# Altium integrated library Cypress PSoC 1.IntLib: 188 symbols (part 2 of 11)
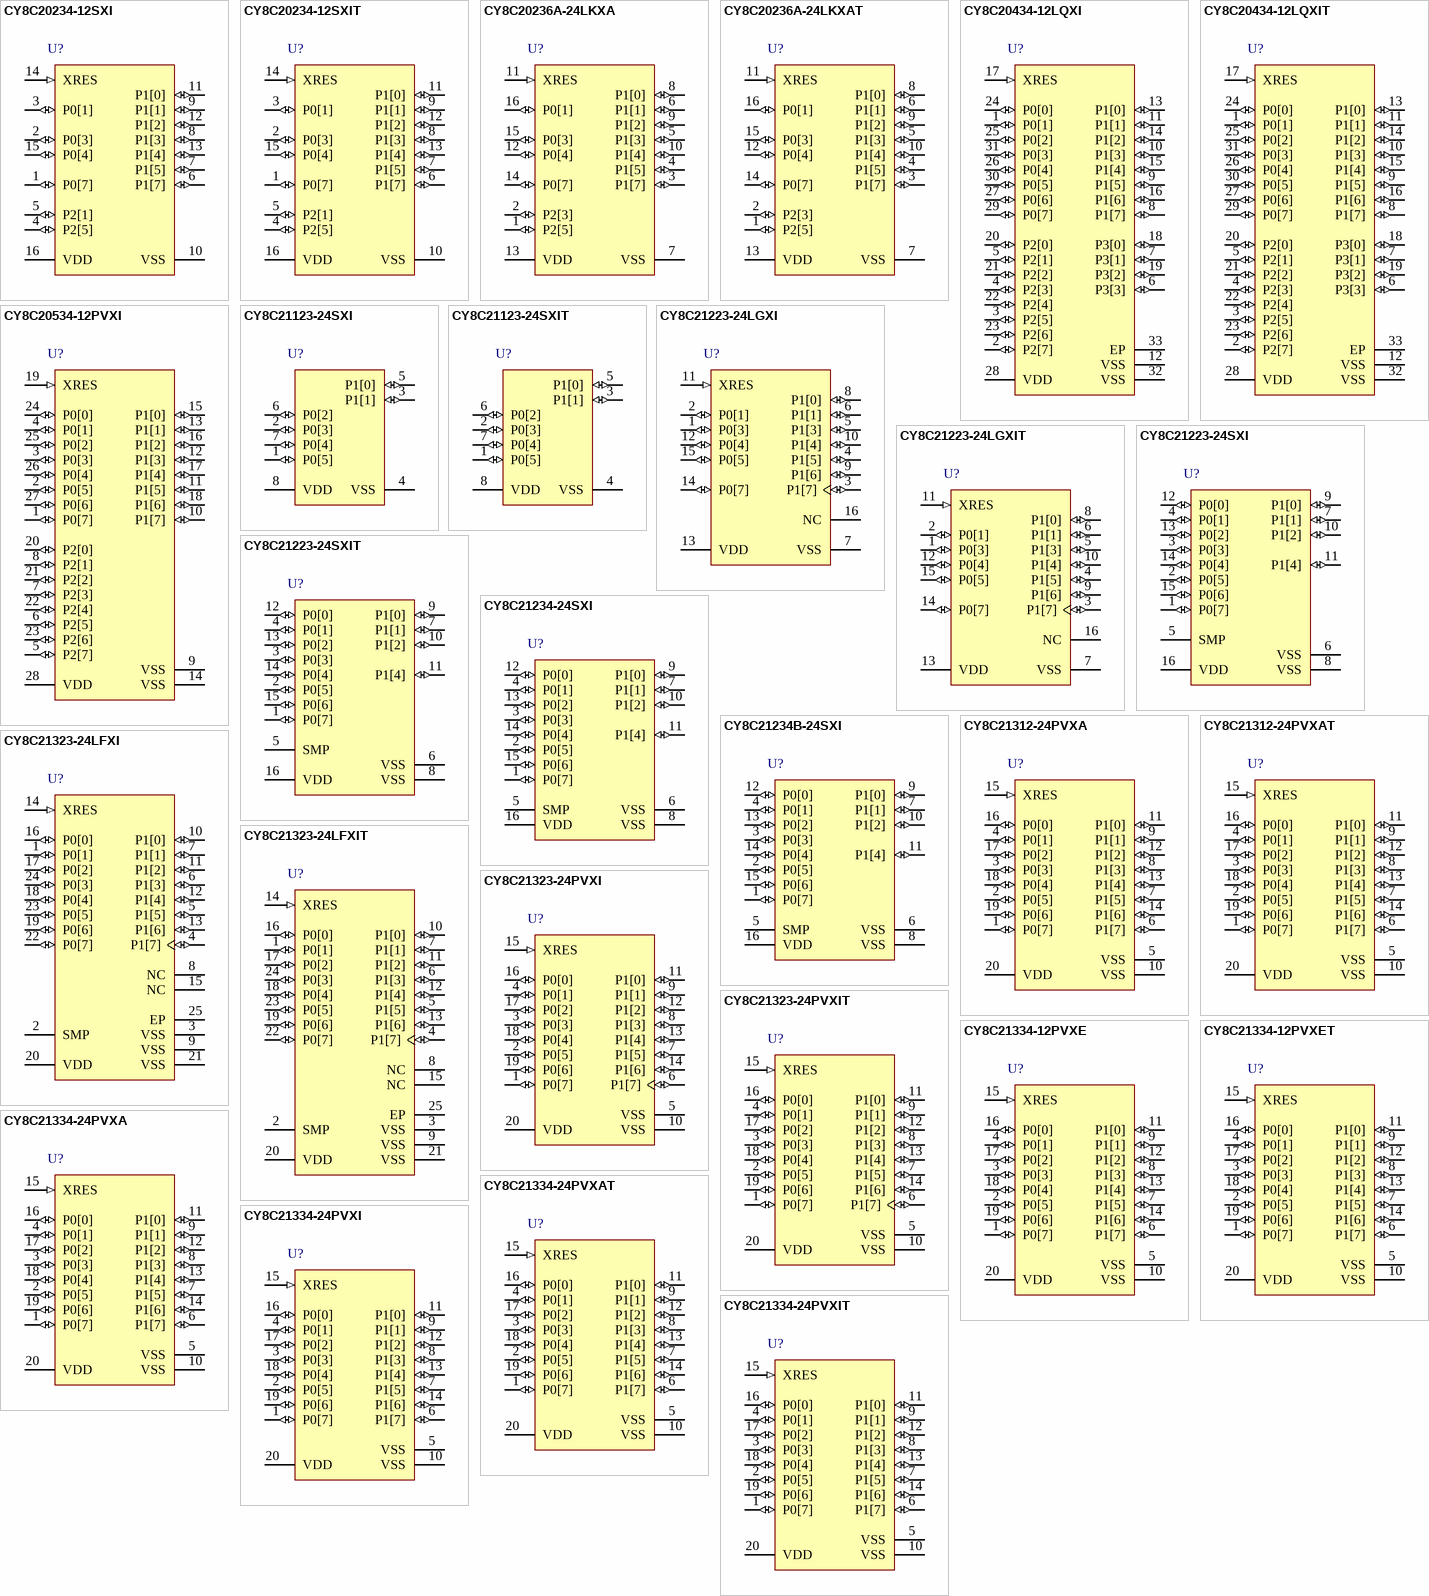
[diagram p12: symbols CY8C20234-12SXI to CY8C21334-24PVXIT]

## CY8C20534-12PVXI
designator U?
PSoC Programmable System-on-Chip, M8C, 21 CapSense IO, 2.40 to 5.25 V, 28-Pin SSOP (PVX28); Manufacturer: Cypress; PartNumber: CY8C20534-12PVXI; Comm. Interface: I2C-SPI; No. of CapSense IO: 21; Flash (KB): 8; Max. Operating Voltage (V): 5.25; Min. Operating Voltage (V): 2.4; No. of GPIOs: 24; Packing: Tube; Proximity Sensing: N; PWMs: SW; Sliders: 4; SRAM (KB): 0.5; DatasheetVersion: Rev. *Q; PackageVersion: *C; PackageReference: PVX28; PackageDescription: 28-Pin SSOP, Body 10.2 x 5.3 mm, Pitch 0.65 mm; Supplier 1: Digi-Key; Supplier Part Number 1: CY8C20534-12PVXI-ND; Supplier 2: Mouser; Supplier Part Number 2: 727-CY8C20534-12PVXI; CPU Core: M8C; Max. Operating Temp. (°C): 85; Min. Operating Temp. (°C): -40; SmartSense Enabled: N; Mounting Technology: Surface Mount; ComponentLink1Description: Manufacturer URL; ComponentLink1URL: http://www.cypress.com/; ComponentLink2Description: Datasheet; ComponentLink2URL: http://www.cypress.com/?docID=38076; ComponentLink3Description: Package Specification; ComponentLink3URL: http://www.cypress.com/?docID=1371; ComponentLink4Description: Product URL; ComponentLink4URL: http://www.cypress.com/?rID=3372
footprint CYP-PVX28_N (SOP, 28-Leads, Body 10.2x5.3mm, Pitch 0.65mm, IPC Medium Density)
footprint CYP-PVX28_L (SOP, 28-Leads, Body 10.2x5.3mm, Pitch 0.65mm, IPC High Density)
footprint CYP-PVX28_M (SOP, 28-Leads, Body 10.2x5.3mm, Pitch 0.65mm, IPC Low Density)
pins: 1 P0[7] (io) "Analog column mux input", 2 P0[5] (io) "Analog column mux input and column output", 3 P0[3] (io) "Analog column mux input and column output, integrating input", 4 P0[1] (io) "Analog column mux input, integrating input", 5 P2[7] (io), 6 P2[5] (io), 7 P2[3] (io) "Direct switched capacitor block input", 8 P2[1] (io) "Direct switched capacitor block input", 9 VSS (power) "Ground connection", 10 P1[7] (io) "I2C serial clock (SCL)", 11 P1[5] (io) "I2C serial data (SDA)", 12 P1[3] (io), 13 P1[1] (io) "I2C serial clock (SCL), ISSP-SCLK", 14 VSS (power) "Ground connection", 15 P1[0] (io) "I2C serial data (SDA), ISSP-SDATA", 16 P1[2] (io), 17 P1[4] (io) "Optional external clock input (EXTCLK)", 18 P1[6] (io), 19 XRES (in) "Active high external reset with internal pull-down", 20 P2[0] (io) "Direct switched capacitor block input", 21 P2[2] (io) "Direct switched capacitor block input", 22 P2[4] (io), 23 P2[6] (io), 24 P0[0] (io) "Analog column mux input", 25 P0[2] (io) "Analog column mux input", 26 P0[4] (io) "Analog column mux input", 27 P0[6] (io) "Analog column mux input", 28 VDD (power) "Supply voltage"

## CY8C21123-24SXI
designator U?
PSoC Programmable System-on-Chip, 4 KB Flash, 6 GPIOs, 2.40 to 5.25 V, 8-Pin SOIC (S08.15); Manufacturer: Cypress; PartNumber: CY8C21123-24SXI; Flash (KB): 4; Max. Operating Voltage (V): 5.25; Min. Operating Voltage (V): 2.40; DatasheetVersion: Rev. *X; PackageVersion: *D; PackageReference: S08.15; PackageDescription: 8-Pin SOIC, Body 4.9 x 3.9 mm, Pitch 1.27 mm; Supplier 1: Digi-Key; Supplier Part Number 1: 428-1682-ND; Supplier 2: Farnell; Supplier Part Number 2: 1267169; Supplier 3: Newark; Supplier Part Number 3: 19M7156; Supplier 4: Mouser; Supplier Part Number 4: 727-CY8C21123-24SXI; No. of Programmable Digital Blocks: 4; Mounting Technology: Surface Mount; Code_JEDEC: MS-012; ComponentLink1Description: Manufacturer URL; ComponentLink1URL: http://www.cypress.com/; ComponentLink2Description: Datasheet; ComponentLink2URL: http://www.cypress.com/?docID=45147; ComponentLink3Description: Package Specification; ComponentLink3URL: http://www.cypress.com/?docID=20445; ComponentLink4Description: Product URL; ComponentLink4URL: http://www.cypress.com/?rID=3335
footprint CYP-S08.15_N (SOIC, 8-Leads, Body 4.9x3.9mm, Pitch 1.27mm, IPC Medium Density)
footprint CYP-S08.15_L (SOIC, 8-Leads, Body 4.9x3.9mm, Pitch 1.27mm, IPC High Density)
footprint CYP-S08.15_M (SOIC, 8-Leads, Body 4.9x3.9mm, Pitch 1.27mm, IPC Low Density)
pins: 1 P0[5] (io) "Analog column mux input", 2 P0[3] (io) "Analog column mux input", 3 P1[1] (io) "I2C serial clock (SCL), ISSP-SCLK", 4 VSS (power) "Ground connection", 5 P1[0] (io) "I2C serial data (SDA), ISSP-SDATA", 6 P0[2] (io) "Analog column mux input", 7 P0[4] (io) "Analog column mux input", 8 VDD (power) "Supply voltage"

## CY8C21123-24SXIT
designator U?
PSoC Programmable System-on-Chip, 4 KB Flash, 6 GPIOs, 2.40 to 5.25 V, 8-Pin SOIC (S08.15), Tape and Reel; Manufacturer: Cypress; PartNumber: CY8C21123-24SXIT; Flash (KB): 4; Max. Operating Voltage (V): 5.25; Min. Operating Voltage (V): 2.40; DatasheetVersion: Rev. *X; PackageVersion: *D; PackageReference: S08.15; PackageDescription: 8-Pin SOIC, Body 4.9 x 3.9 mm, Pitch 1.27 mm; Supplier 1: Digi-Key; Supplier Part Number 1: CY8C21123-24SXIT-ND; Supplier 2: Newark; Supplier Part Number 2: 19M7157; Supplier 3: Mouser; Supplier Part Number 3: 727-CY8C2112324SXIT; No. of Programmable Digital Blocks: 4; Mounting Technology: Surface Mount; Code_JEDEC: MS-012; ComponentLink1Description: Manufacturer URL; ComponentLink1URL: http://www.cypress.com/; ComponentLink2Description: Datasheet; ComponentLink2URL: http://www.cypress.com/?docID=45147; ComponentLink3Description: Package Specification; ComponentLink3URL: http://www.cypress.com/?docID=20445; ComponentLink4Description: Product URL; ComponentLink4URL: http://www.cypress.com/?rID=3335
footprint CYP-S08.15_N (SOIC, 8-Leads, Body 4.9x3.9mm, Pitch 1.27mm, IPC Medium Density)
footprint CYP-S08.15_L (SOIC, 8-Leads, Body 4.9x3.9mm, Pitch 1.27mm, IPC High Density)
footprint CYP-S08.15_M (SOIC, 8-Leads, Body 4.9x3.9mm, Pitch 1.27mm, IPC Low Density)
pins: 1 P0[5] (io) "Analog column mux input", 2 P0[3] (io) "Analog column mux input", 3 P1[1] (io) "I2C serial clock (SCL), ISSP-SCLK", 4 VSS (power) "Ground connection", 5 P1[0] (io) "I2C serial data (SDA), ISSP-SDATA", 6 P0[2] (io) "Analog column mux input", 7 P0[4] (io) "Analog column mux input", 8 VDD (power) "Supply voltage"

## CY8C21223-24LGXI
designator U?
PSoC Programmable System-on-Chip, 4 KB Flash, 12 GPIOs, 2.40 to 5.25 V, 16-Pin QFN (LD16A); Manufacturer: Cypress; PartNumber: CY8C21223-24LGXI; Flash (KB): 4; Max. Operating Voltage (V): 5.25; Min. Operating Voltage (V): 2.40; DatasheetVersion: Rev. *X; PackageVersion: *E; PackageReference: LKX16; PackageDescription: 16-Pin Chip on Lead Sawn QFN, Body 3 X 3 mm, Pitch 0.5 mm; Supplier 1: Digi-Key; Supplier Part Number 1: 428-2948-5-ND; Supplier 2: Newark; Supplier Part Number 2: 07R8378; Supplier 3: Mouser; Supplier Part Number 3: 727-CY8C21223-24LGXI; No. of Programmable Digital Blocks: 4; Mounting Technology: Surface Mount; Code_JEDEC: MO-220; ComponentLink1Description: Manufacturer URL; ComponentLink1URL: http://www.cypress.com/; ComponentLink2Description: Datasheet; ComponentLink2URL: http://www.cypress.com/?docID=45147; ComponentLink3Description: Package Specification; ComponentLink3URL: http://www.cypress.com/?docID=39689; ComponentLink4Description: Product URL; ComponentLink4URL: http://www.cypress.com/?rID=3335
footprint CYP-LKX16_N (QFN, 16-Leads, Body 3x3mm, Pitch 0.5mm, IPC Medium Density)
footprint CYP-LKX16_L (QFN, 16-Leads, Body 3x3mm, Pitch 0.5mm, IPC High Density)
footprint CYP-LKX16_M (QFN, 16-Leads, Body 3x3mm, Pitch 0.5mm, IPC Low Density)
pins: 1 P0[3] (io) "Analog column mux input", 2 P0[1] (io) "Analog column mux input", 3 P1[7] (io) "I2C SCL", 4 P1[5] (io) "I2C SDA", 5 P1[3] (io), 6 P1[1] (io) "I2C SCL, ISSP-SCLK[3]", 7 VSS (power) "Ground connection", 8 P1[0] (io) "I2C SDA, ISSP-SDATA[3]", 9 P1[6] (io), 10 P1[4] (io) "EXTCLK", 11 XRES (in) "Active high external reset with internal pull-down", 12 P0[4] (io) "VREF", 13 VDD (power) "Supply voltage", 14 P0[7] (io) "Analog column mux input", 15 P0[5] (io) "Analog column mux input", 16 NC "No Connection. Pin must be left floating"

## CY8C21223-24LGXIT
designator U?
PSoC Programmable System-on-Chip, 4 KB Flash, 12 GPIOs, 2.40 to 5.25 V, 16-Pin QFN (LD16A), Tape and Reel; Manufacturer: Cypress; PartNumber: CY8C21223-24LGXIT; Flash (KB): 4; Max. Operating Voltage (V): 5.25; Min. Operating Voltage (V): 2.40; DatasheetVersion: Rev. *X; PackageVersion: *E; PackageReference: LKX16; PackageDescription: 16-Pin Chip on Lead Sawn QFN, Body 3 X 3 mm, Pitch 0.5 mm; Supplier 1: Digi-Key; Supplier Part Number 1: CY8C21223-24LGXIT-ND; Supplier 2: Newark; Supplier Part Number 2: 50R9563; Supplier 3: Mouser; Supplier Part Number 3: 727-CY8C2122324LGXIT; No. of Programmable Digital Blocks: 4; Mounting Technology: Surface Mount; Code_JEDEC: MO-220; ComponentLink1Description: Manufacturer URL; ComponentLink1URL: http://www.cypress.com/; ComponentLink2Description: Datasheet; ComponentLink2URL: http://www.cypress.com/?docID=45147; ComponentLink3Description: Package Specification; ComponentLink3URL: http://www.cypress.com/?docID=39689; ComponentLink4Description: Product URL; ComponentLink4URL: http://www.cypress.com/?rID=3335
footprint CYP-LKX16_N (QFN, 16-Leads, Body 3x3mm, Pitch 0.5mm, IPC Medium Density)
footprint CYP-LKX16_L (QFN, 16-Leads, Body 3x3mm, Pitch 0.5mm, IPC High Density)
footprint CYP-LKX16_M (QFN, 16-Leads, Body 3x3mm, Pitch 0.5mm, IPC Low Density)
pins: 1 P0[3] (io) "Analog column mux input", 2 P0[1] (io) "Analog column mux input", 3 P1[7] (io) "I2C SCL", 4 P1[5] (io) "I2C SDA", 5 P1[3] (io), 6 P1[1] (io) "I2C SCL, ISSP-SCLK[3]", 7 VSS (power) "Ground connection", 8 P1[0] (io) "I2C SDA, ISSP-SDATA[3]", 9 P1[6] (io), 10 P1[4] (io) "EXTCLK", 11 XRES (in) "Active high external reset with internal pull-down", 12 P0[4] (io) "VREF", 13 VDD (power) "Supply voltage", 14 P0[7] (io) "Analog column mux input", 15 P0[5] (io) "Analog column mux input", 16 NC "No Connection. Pin must be left floating"

## CY8C21223-24SXI
designator U?
PSoC Programmable System-on-Chip, 4 KB Flsah, 12 GPIOs, 2.40 to 5.25 V, 16-Pin SOIC (S16.15); Manufacturer: Cypress; PartNumber: CY8C21223-24SXI; Flash (KB): 4; Max. Operating Voltage (V): 5.25; Min. Operating Voltage (V): 2.40; DatasheetVersion: Rev. *X; PackageReference: SX16; PackageDescription: 16-Pin SOIC (150 MIL), Body 9.89 x 3.90 mm, Pitch 1.27 mm; Supplier 1: Digi-Key; Supplier Part Number 1: 428-1683-ND; Supplier 2: Farnell; Supplier Part Number 2: 1267173; Supplier 3: Newark; Supplier Part Number 3: 19M7158; Supplier 4: Mouser; Supplier Part Number 4: 727-CY8C21223-24SXI; No. of Programmable Digital Blocks: 4; Mounting Technology: Surface Mount; Code_JEDEC: MS-012; ComponentLink1Description: Manufacturer URL; ComponentLink1URL: http://www.cypress.com/; ComponentLink2Description: Datasheet; ComponentLink2URL: http://www.cypress.com/?docID=45147; ComponentLink3Description: Package Specification; ComponentLink3URL: http://www.cypress.com/?docID=39437; ComponentLink4Description: Product URL; ComponentLink4URL: http://www.cypress.com/?rID=3335
footprint CYP-SX16_N (SOIC, 16-Leads, Body 9.9x3.9mm, Pitch 1.27mm, IPC Medium Density)
footprint CYP-SX16_L (SOIC, 16-Leads, Body 9.9x3.9mm, Pitch 1.27mm, IPC High Density)
footprint CYP-SX16_M (SOIC, 16-Leads, Body 9.9x3.9mm, Pitch 1.27mm, IPC Low Density)
pins: 1 P0[7] (io) "Analog column mux input", 2 P0[5] (io) "Analog column mux input", 3 P0[3] (io) "Analog column mux input", 4 P0[1] (io) "Analog column mux input", 5 SMP (power) "SMP connection to required external components", 6 VSS (power) "Ground connection", 7 P1[1] (io) "I2C SCL, ISSP-SCLK", 8 VSS (power) "Ground connection", 9 P1[0] (io) "I2C SDA, ISSP-SDATA", 10 P1[2] (io), 11 P1[4] (io) "Optional external clock input (EXTCLK)", 12 P0[0] (io) "Analog column mux input", 13 P0[2] (io) "Analog column mux input", 14 P0[4] (io) "Analog column mux input", 15 P0[6] (io) "Analog column mux input", 16 VDD (power) "Supply voltage"

## CY8C21223-24SXIT
designator U?
PSoC Programmable System-on-Chip, 4 KB Flash, 12 GPIOs, 2.40 to 5.25 V, 16-Pin SOIC (S16.15), Tape and Reel; Manufacturer: Cypress; PartNumber: CY8C21223-24SXIT; Flash (KB): 4; Max. Operating Voltage (V): 5.25; Min. Operating Voltage (V): 2.40; DatasheetVersion: Rev. *X; PackageReference: SX16; PackageDescription: 16-Pin SOIC (150 MIL), Body 9.89 x 3.90 mm, Pitch 1.27 mm; Supplier 1: Digi-Key; Supplier Part Number 1: CY8C21223-24SXIT-ND; Supplier 2: Newark; Supplier Part Number 2: 19M7159; Supplier 3: Mouser; Supplier Part Number 3: 727-CY8C2122324SXIT; No. of Programmable Digital Blocks: 4; Mounting Technology: Surface Mount; Code_JEDEC: MS-012; ComponentLink1Description: Manufacturer URL; ComponentLink1URL: http://www.cypress.com/; ComponentLink2Description: Datasheet; ComponentLink2URL: http://www.cypress.com/?docID=45147; ComponentLink3Description: Package Specification; ComponentLink3URL: http://www.cypress.com/?docID=39437; ComponentLink4Description: Product URL; ComponentLink4URL: http://www.cypress.com/?rID=3335
footprint CYP-SX16_N (SOIC, 16-Leads, Body 9.9x3.9mm, Pitch 1.27mm, IPC Medium Density)
footprint CYP-SX16_L (SOIC, 16-Leads, Body 9.9x3.9mm, Pitch 1.27mm, IPC High Density)
footprint CYP-SX16_M (SOIC, 16-Leads, Body 9.9x3.9mm, Pitch 1.27mm, IPC Low Density)
pins: 1 P0[7] (io) "Analog column mux input", 2 P0[5] (io) "Analog column mux input", 3 P0[3] (io) "Analog column mux input", 4 P0[1] (io) "Analog column mux input", 5 SMP (power) "SMP connection to required external components", 6 VSS (power) "Ground connection", 7 P1[1] (io) "I2C SCL, ISSP-SCLK", 8 VSS (power) "Ground connection", 9 P1[0] (io) "I2C SDA, ISSP-SDATA", 10 P1[2] (io), 11 P1[4] (io) "Optional external clock input (EXTCLK)", 12 P0[0] (io) "Analog column mux input", 13 P0[2] (io) "Analog column mux input", 14 P0[4] (io) "Analog column mux input", 15 P0[6] (io) "Analog column mux input", 16 VDD (power) "Supply voltage"

## CY8C21234-24SXI
designator U?
PSoC Programmable System-on-Chip, 8 KB Flash, 12 GPIOs, 2.40 to 5.25 V, 16-Pin SOIC (S16.15); Manufacturer: Cypress; PartNumber: CY8C21234-24SXI; Comm. Interface: I2C-SPI-UART; CPU Core: M8C; No. of CapSense IO: 8; Max. Operating Voltage (V): 5.25; Min. Operating Voltage (V): 2.4; No. of GPIOs: 12; No. of Programmable Digital Blocks: 3; Proximity Sensing: Y; PWMs: HW; Rating: I; Sliders: 1; SmartSense Enabled: N; DatasheetVersion: Rev. *AD; PackageReference: SX16; PackageDescription: 16-Pin SOIC (150 MIL), Body 9.89 x 3.90 mm, Pitch 1.27 mm; Supplier 1: Digi-Key; Supplier Part Number 1: 428-1611-ND; Supplier 2: Farnell; Supplier Part Number 2: 1321728; Supplier 3: Newark; Supplier Part Number 3: 31M4840; Supplier 4: Newark; Supplier Part Number 4: 19M7160; Supplier 5: Mouser; Supplier Part Number 5: 727-CY8C21234-24SXI; Flash (KB): 8; Max. Operating Temp. (°C): 85; Min. Operating Temp. (°C): -40; RoHS: Pb-Free; Mounting Technology: Surface Mount; Code_JEDEC: MS-012; ComponentLink1Description: Manufacturer URL; ComponentLink1URL: http://www.cypress.com/; ComponentLink2Description: Datasheet; ComponentLink2URL: http://www.cypress.com/?docID=48828; ComponentLink3Description: Package Specification; ComponentLink3URL: http://www.cypress.com/?docID=39437; ComponentLink4Description: Product URL; ComponentLink4URL: http://www.cypress.com/?rID=3345
footprint CYP-SX16_N (SOIC, 16-Leads, Body 9.9x3.9mm, Pitch 1.27mm, IPC Medium Density)
footprint CYP-SX16_L (SOIC, 16-Leads, Body 9.9x3.9mm, Pitch 1.27mm, IPC High Density)
footprint CYP-SX16_M (SOIC, 16-Leads, Body 9.9x3.9mm, Pitch 1.27mm, IPC Low Density)
pins: 1 P0[7] (io) "Analog column mux input", 2 P0[5] (io) "Analog column mux input", 3 P0[3] (io) "Analog column mux input, integrating input", 4 P0[1] (io) "Analog column mux input, integrating input", 5 SMP (power), 6 VSS (power) "Ground connection", 7 P1[1] (io) "I2C serial clock (SCL), ISSP-SCLK", 8 VSS (power) "Ground connection", 9 P1[0] (io) "I2C serial data (SDA), ISSP-SDATA", 10 P1[2] (io), 11 P1[4] (io) "Optional external clock input (EXTCLK)", 12 P0[0] (io) "Analog column mux input", 13 P0[2] (io) "Analog column mux input", 14 P0[4] (io) "Analog column mux input", 15 P0[6] (io) "Analog column mux input", 16 VDD (power) "Supply voltage"

## CY8C21234B-24SXI
designator U?
PSoC Programmable System-on-Chip, M8C, 8 CapSense IO, 2.4 to 5.25 V, 16-Pin SOIC (SX16); Manufacturer: Cypress; PartNumber: CY8C21234B-24SXI; Comm. Interface: I2C-SPI-UART; No. of CapSense IO: 8; Max. Operating Voltage (V): 5.25; Min. Operating Voltage (V): 2.4; No. of Programmable Digital Blocks: 3; Packing: Tube; Proximity Sensing: Y; PWMs: HW; Rating: I; Sliders: 2; DatasheetVersion: Rev. *D; PackageReference: SX16; PackageDescription: 16-Pin SOIC (150 MIL), Body 9.89 x 3.90 mm, Pitch 1.27 mm; Supplier 1: Digi-Key; Supplier Part Number 1: CY8C21234B-24SXI-ND; Supplier 2: Newark; Supplier Part Number 2: 58T0046; Supplier 3: Mouser; Supplier Part Number 3: 727-CY8C21234B-24SXI; CPU Core: M8C; Flash (KB): 8; Max. Operating Temp. (°C): 85; Min. Operating Temp. (°C): -40; No. of GPIOs: 8; RoHS: Pb-Free; SmartSense Enabled: Y; Mounting Technology: Surface Mount; Code_JEDEC: MS-012; ComponentLink1Description: Manufacturer URL; ComponentLink1URL: http://www.cypress.com/; ComponentLink2Description: Datasheet; ComponentLink2URL: http://www.cypress.com/?docID=48203; ComponentLink3Description: Package Specification; ComponentLink3URL: http://www.cypress.com/?docID=39437; ComponentLink4Description: Product URL; ComponentLink4URL: http://www.cypress.com/?rID=49125
footprint CYP-SX16_N (SOIC, 16-Leads, Body 9.9x3.9mm, Pitch 1.27mm, IPC Medium Density)
footprint CYP-SX16_L (SOIC, 16-Leads, Body 9.9x3.9mm, Pitch 1.27mm, IPC High Density)
footprint CYP-SX16_M (SOIC, 16-Leads, Body 9.9x3.9mm, Pitch 1.27mm, IPC Low Density)
pins: 1 P0[7] (io) "Analog column mux input", 2 P0[5] (io) "Analog column mux input", 3 P0[3] (io) "Analog column mux input, integrating input", 4 P0[1] (io) "Analog column mux input, integrating input", 5 SMP (power) "Switch-mode pump (SMP) connection to required external components", 6 VSS (power) "Ground connection", 7 P1[1] (io) "I2C serial clock (SCL), ISSP-SCLK", 8 VSS (power) "Ground connection", 9 P1[0] (io) "I2C serial data (SDA), ISSP-SDATA", 10 P1[2] (io), 11 P1[4] (io) "Optional external clock input (EXTCLK)", 12 P0[0] (io) "Analog column mux input", 13 P0[2] (io) "Analog column mux input", 14 P0[4] (io) "Analog column mux input", 15 P0[6] (io) "Analog column mux input", 16 VDD (power) "Supply voltage"

## CY8C21312-24PVXA
designator U?
Automotive PSoC Programmable System-on-Chip, 8 KB Flash, 16 GPIOs, 3.00 to 5.25 V, 20-Pin SSOP (O20.21); Manufacturer: Cypress; PartNumber: CY8C21312-24PVXA; Comm. Interface: I2C-SPI-UART; CPU Core: M8C; No. of CapSense IO: 12; Flash (KB): 8; Max. Operating Voltage (V): 5.25; Min. Operating Voltage (V): 3; No. of GPIOs: 16; No. of Programmable Digital Blocks: 1; Proximity Sensing: Y; PWMs: HW; Rating: A; Sliders: 2; SmartSense Enabled: N; DatasheetVersion: Rev. *C; PackageVersion: *C; PackageReference: PVX20; PackageDescription: 20-Pin SSOP, Body 7.2 x 5.3 mm, Pitch 0.65 mm; Supplier 1: Digi-Key; Supplier Part Number 1: CY8C21312-24PVXA-ND; Supplier 2: Mouser; Supplier Part Number 2: 727-CY8C21312-24PVXA; Max. Operating Temp. (°C): 85; Min. Operating Temp. (°C): -40; RoHS: Pb-Free; Mounting Technology: Surface Mount; ComponentLink1Description: Manufacturer URL; ComponentLink1URL: http://www.cypress.com/; ComponentLink2Description: Datasheet; ComponentLink2URL: http://www.cypress.com/?docID=45699; ComponentLink3Description: Package Specification; ComponentLink3URL: http://www.cypress.com/?docID=39148; ComponentLink4Description: Product URL; ComponentLink4URL: http://www.cypress.com/?rID=47232
footprint CYP-PVX20_N (SOP, 20-Leads, Body 7.2x5.3mm, Pitch 0.65mm, IPC Medium Density)
footprint CYP-PVX20_L (SOP, 20-Leads, Body 7.2x5.3mm, Pitch 0.65mm, IPC High Density)
footprint CYP-PVX20_M (SOP, 20-Leads, Body 7.2x5.3mm, Pitch 0.65mm, IPC Low Density)
pins: 1 P0[7] (io) "Analog column mux input", 2 P0[5] (io) "Analog column mux input", 3 P0[3] (io) "Analog column mux input, CMOD capacitor pin", 4 P0[1] (io) "Analog column mux input, CMOD capacitor pin", 5 VSS (power) "Ground connection", 6 P1[7] (io) "I2C serial clock (SCL)", 7 P1[5] (io) "I2C serial data (SDA)", 8 P1[3] (io), 9 P1[1] (io) "I2C SCL, ISSP-SCLK", 10 VSS (power) "Ground connection", 11 P1[0] (io) "I2C SDA, ISSP-SDATA", 12 P1[2] (io), 13 P1[4] (io) "Optional external clock input (EXTCLK)", 14 P1[6] (io), 15 XRES (in) "Active high external reset with internal pull-down", 16 P0[0] (io) "Analog column mux input", 17 P0[2] (io) "Analog column mux input", 18 P0[4] (io) "Analog column mux input", 19 P0[6] (io) "Analog column mux input", 20 VDD (power) "Supply voltage"

## CY8C21312-24PVXAT
designator U?
Automotive PSoC Programmable System-on-Chip, 8 KB Flash, 16 GPIOs, 3.00 to 5.25 V, 20-Pin SSOP (O20.21), Tape and Reel; Manufacturer: Cypress; PartNumber: CY8C21312-24PVXAT; Comm. Interface: I2C-SPI-UART; CPU Core: M8C; No. of CapSense IO: 12; Flash (KB): 8; Max. Operating Voltage (V): 5.25; Min. Operating Voltage (V): 3; No. of GPIOs: 16; No. of Programmable Digital Blocks: 1; Proximity Sensing: Y; PWMs: HW; Rating: A; Sliders: 2; SmartSense Enabled: N; DatasheetVersion: Rev. *C; PackageVersion: *C; PackageReference: PVX20; PackageDescription: 20-Pin SSOP, Body 7.2 x 5.3 mm, Pitch 0.65 mm; Supplier 1: Digi-Key; Supplier Part Number 1: CY8C21312-24PVXAT-ND; Supplier 2: Mouser; Supplier Part Number 2: 727-CY8C2131224PVXAT; Max. Operating Temp. (°C): 85; Min. Operating Temp. (°C): -40; Packing: Tape and Reel; RoHS: Pb-Free; Mounting Technology: Surface Mount; ComponentLink1Description: Manufacturer URL; ComponentLink1URL: http://www.cypress.com/; ComponentLink2Description: Datasheet; ComponentLink2URL: http://www.cypress.com/?docID=45699; ComponentLink3Description: Package Specification; ComponentLink3URL: http://www.cypress.com/?docID=39148; ComponentLink4Description: Product URL; ComponentLink4URL: http://www.cypress.com/?rID=47232
footprint CYP-PVX20_N (SOP, 20-Leads, Body 7.2x5.3mm, Pitch 0.65mm, IPC Medium Density)
footprint CYP-PVX20_L (SOP, 20-Leads, Body 7.2x5.3mm, Pitch 0.65mm, IPC High Density)
footprint CYP-PVX20_M (SOP, 20-Leads, Body 7.2x5.3mm, Pitch 0.65mm, IPC Low Density)
pins: 1 P0[7] (io) "Analog column mux input", 2 P0[5] (io) "Analog column mux input", 3 P0[3] (io) "Analog column mux input, CMOD capacitor pin", 4 P0[1] (io) "Analog column mux input, CMOD capacitor pin", 5 VSS (power) "Ground connection", 6 P1[7] (io) "I2C serial clock (SCL)", 7 P1[5] (io) "I2C serial data (SDA)", 8 P1[3] (io), 9 P1[1] (io) "I2C SCL, ISSP-SCLK", 10 VSS (power) "Ground connection", 11 P1[0] (io) "I2C SDA, ISSP-SDATA", 12 P1[2] (io), 13 P1[4] (io) "Optional external clock input (EXTCLK)", 14 P1[6] (io), 15 XRES (in) "Active high external reset with internal pull-down", 16 P0[0] (io) "Analog column mux input", 17 P0[2] (io) "Analog column mux input", 18 P0[4] (io) "Analog column mux input", 19 P0[6] (io) "Analog column mux input", 20 VDD (power) "Supply voltage"

## CY8C21323-24LFXI
designator U?
PSoC Programmable System-on-Chip, 4 KB Flash, 16 GPIOs, 2.40 to 5.25 V, 24-Pin QFN (LF24A); Manufacturer: Cypress; PartNumber: CY8C21323-24LFXI; Flash (KB): 4; Max. Operating Voltage (V): 5.25; Min. Operating Voltage (V): 2.40; DatasheetVersion: Rev. *X; PackageReference: LF24A; PackageDescription: 24-Pin QFN, Body 4 x 4 mm, Pitch 0.5 mm; Supplier 1: Digi-Key; Supplier Part Number 1: 428-1685-ND; Supplier 2: Farnell; Supplier Part Number 2: 1267174; Supplier 3: Farnell; Supplier Part Number 3: 1267174MPKG; Supplier 4: Newark; Supplier Part Number 4: 19M7162; Supplier 5: Mouser; Supplier Part Number 5: 727-CY8C21323-24LFXI; No. of Programmable Digital Blocks: 4; Mounting Technology: Surface Mount; Code_JEDEC: MO-220; ComponentLink1Description: Manufacturer URL; ComponentLink1URL: http://www.cypress.com/; ComponentLink2Description: Datasheet; ComponentLink2URL: http://www.cypress.com/?docID=45147; ComponentLink3Description: Package Specification; ComponentLink3URL: http://www.cypress.com/?docID=19295; ComponentLink4Description: Product URL; ComponentLink4URL: http://www.cypress.com/?rID=3335
footprint CYP-LF24A_N (QFN, 24-Leads, Body 4x4mm, Pitch 0.5mm, Thermal Pad 2.49x2.49mm, IPC Medium Density)
footprint CYP-LF24A_L (QFN, 24-Leads, Body 4x4mm, Pitch 0.5mm, Thermal Pad 2.49x2.49mm, IPC High Density)
footprint CYP-LF24A_M (QFN, 24-Leads, Body 4x4mm, Pitch 0.5mm, Thermal Pad 2.49x2.49mm, IPC Low Density)
pins: 1 P0[1] (io) "Analog column mux input", 2 SMP (power) "SMP connection to required external  components", 3 VSS (power) "Ground connection", 4 P1[7] (io) "I2C SCL", 5 P1[5] (io) "I2C SDA", 6 P1[3] (io), 7 P1[1] (io) "I2C SCL, ISSP-SCLK", 8 NC "No connection. Pin must be left floating", 9 VSS (power) "Ground connection", 10 P1[0] (io) "I2C SDA, ISSP-SDATA", 11 P1[2] (io), 12 P1[4] (io) "Optional (EXTCLK) input", 13 P1[6] (io), 14 XRES (in) "Active high external reset with internal  pull-down", 15 NC "No connection. Pin must be left floating", 16 P0[0] (io) "Analog column mux input", 17 P0[2] (io) "Analog column mux input", 18 P0[4] (io) "Analog column mux input", 19 P0[6] (io) "Analog column mux input", 20 VDD (power) "Supply voltage", 21 VSS (power) "Ground connection", 22 P0[7] (io) "Analog column mux input", 23 P0[5] (io) "Analog column mux input", 24 P0[3] (io) "Analog column mux input", 25 EP (power) "Exposed Pad"

## CY8C21323-24LFXIT
designator U?
PSoC Programmable System-on-Chip, 4 KB Flash, 16 GPIOs, 2.40 to 5.25 V, 24-Pin QFN (LF24A), Tape and Reel; Manufacturer: Cypress; PartNumber: CY8C21323-24LFXIT; Flash (KB): 4; Max. Operating Voltage (V): 5.25; Min. Operating Voltage (V): 2.40; DatasheetVersion: Rev. *X; PackageReference: LF24A; PackageDescription: 24-Pin QFN, Body 4 x 4 mm, Pitch 0.5 mm; Supplier 1: Digi-Key; Supplier Part Number 1: CY8C21323-24LFXIT-ND; Supplier 2: Mouser; Supplier Part Number 2: 727-CY8C2132324LFXIT; No. of Programmable Digital Blocks: 4; Mounting Technology: Surface Mount; Code_JEDEC: MO-220; ComponentLink1Description: Manufacturer URL; ComponentLink1URL: http://www.cypress.com/; ComponentLink2Description: Datasheet; ComponentLink2URL: http://www.cypress.com/?docID=45147; ComponentLink3Description: Package Specification; ComponentLink3URL: http://www.cypress.com/?docID=19295; ComponentLink4Description: Product URL; ComponentLink4URL: http://www.cypress.com/?rID=3335
footprint CYP-LF24A_N (QFN, 24-Leads, Body 4x4mm, Pitch 0.5mm, Thermal Pad 2.49x2.49mm, IPC Medium Density)
footprint CYP-LF24A_L (QFN, 24-Leads, Body 4x4mm, Pitch 0.5mm, Thermal Pad 2.49x2.49mm, IPC High Density)
footprint CYP-LF24A_M (QFN, 24-Leads, Body 4x4mm, Pitch 0.5mm, Thermal Pad 2.49x2.49mm, IPC Low Density)
pins: 1 P0[1] (io) "Analog column mux input", 2 SMP (power) "SMP connection to required external  components", 3 VSS (power) "Ground connection", 4 P1[7] (io) "I2C SCL", 5 P1[5] (io) "I2C SDA", 6 P1[3] (io), 7 P1[1] (io) "I2C SCL, ISSP-SCLK", 8 NC "No connection. Pin must be left floating", 9 VSS (power) "Ground connection", 10 P1[0] (io) "I2C SDA, ISSP-SDATA", 11 P1[2] (io), 12 P1[4] (io) "Optional (EXTCLK) input", 13 P1[6] (io), 14 XRES (in) "Active high external reset with internal  pull-down", 15 NC "No connection. Pin must be left floating", 16 P0[0] (io) "Analog column mux input", 17 P0[2] (io) "Analog column mux input", 18 P0[4] (io) "Analog column mux input", 19 P0[6] (io) "Analog column mux input", 20 VDD (power) "Supply voltage", 21 VSS (power) "Ground connection", 22 P0[7] (io) "Analog column mux input", 23 P0[5] (io) "Analog column mux input", 24 P0[3] (io) "Analog column mux input", 25 EP (power) "Exposed Pad"

## CY8C21323-24PVXI
designator U?
PSoC Programmable System-on-Chip, 4 KB Flash, 16 GPIOs, 2.40 to 5.25 V, 20-Pin SSOP (O20.21); Manufacturer: Cypress; PartNumber: CY8C21323-24PVXI; Flash (KB): 4; Max. Operating Voltage (V): 5.25; Min. Operating Voltage (V): 2.40; DatasheetVersion: Rev. *X; PackageVersion: *C; PackageReference: PVX20; PackageDescription: 20-Pin SSOP, Body 7.2 x 5.3 mm, Pitch 0.65 mm; Supplier 1: Digi-Key; Supplier Part Number 1: 428-1684-ND; Supplier 2: Newark; Supplier Part Number 2: 19M7164; Supplier 3: Mouser; Supplier Part Number 3: 727-CY8C21323-24PVXI; No. of Programmable Digital Blocks: 4; Mounting Technology: Surface Mount; ComponentLink1Description: Manufacturer URL; ComponentLink1URL: http://www.cypress.com/; ComponentLink2Description: Datasheet; ComponentLink2URL: http://www.cypress.com/?docID=45147; ComponentLink3Description: Package Specification; ComponentLink3URL: http://www.cypress.com/?docID=39148; ComponentLink4Description: Product URL; ComponentLink4URL: http://www.cypress.com/?rID=3335
footprint CYP-PVX20_N (SOP, 20-Leads, Body 7.2x5.3mm, Pitch 0.65mm, IPC Medium Density)
footprint CYP-PVX20_L (SOP, 20-Leads, Body 7.2x5.3mm, Pitch 0.65mm, IPC High Density)
footprint CYP-PVX20_M (SOP, 20-Leads, Body 7.2x5.3mm, Pitch 0.65mm, IPC Low Density)
pins: 1 P0[7] (io) "Analog column mux input", 2 P0[5] (io) "Analog column mux input", 3 P0[3] (io) "Analog column mux input", 4 P0[1] (io) "Analog column mux input", 5 VSS (power) "Ground connection", 6 P1[7] (io) "I2C SCL", 7 P1[5] (io) "I2C SDA", 8 P1[3] (io), 9 P1[1] (io) "I2C SCL, ISSP-SCLK", 10 VSS (power) "Ground connection", 11 P1[0] (io) "I2C SDA, ISSP-SDATA", 12 P1[2] (io), 13 P1[4] (io) "Optional EXTCLK input", 14 P1[6] (io), 15 XRES (in) "Active high external reset with internal pull-down", 16 P0[0] (io) "Analog column mux input", 17 P0[2] (io) "Analog column mux input", 18 P0[4] (io) "Analog column mux input", 19 P0[6] (io) "Analog column mux input", 20 VDD (power) "Supply voltage"

## CY8C21323-24PVXIT
designator U?
PSoC Programmable System-on-Chip, 4 KB Flash, 16 GPIOs, 2.40 to 5.25 V, 20-Pin SSOP (O20.21), Tape and Reel; Manufacturer: Cypress; PartNumber: CY8C21323-24PVXIT; Flash (KB): 4; Max. Operating Voltage (V): 5.25; Min. Operating Voltage (V): 2.40; DatasheetVersion: Rev. *X; PackageVersion: *C; PackageReference: PVX20; PackageDescription: 20-Pin SSOP, Body 7.2 x 5.3 mm, Pitch 0.65 mm; Supplier 1: Digi-Key; Supplier Part Number 1: CY8C21323-24PVXIT-ND; Supplier 2: Mouser; Supplier Part Number 2: 727-CY8C2132324PVXIT; No. of Programmable Digital Blocks: 4; Mounting Technology: Surface Mount; ComponentLink1Description: Manufacturer URL; ComponentLink1URL: http://www.cypress.com/; ComponentLink2Description: Datasheet; ComponentLink2URL: http://www.cypress.com/?docID=45147; ComponentLink3Description: Package Specification; ComponentLink3URL: http://www.cypress.com/?docID=39148; ComponentLink4Description: Product URL; ComponentLink4URL: http://www.cypress.com/?rID=3335
footprint CYP-PVX20_N (SOP, 20-Leads, Body 7.2x5.3mm, Pitch 0.65mm, IPC Medium Density)
footprint CYP-PVX20_L (SOP, 20-Leads, Body 7.2x5.3mm, Pitch 0.65mm, IPC High Density)
footprint CYP-PVX20_M (SOP, 20-Leads, Body 7.2x5.3mm, Pitch 0.65mm, IPC Low Density)
pins: 1 P0[7] (io) "Analog column mux input", 2 P0[5] (io) "Analog column mux input", 3 P0[3] (io) "Analog column mux input", 4 P0[1] (io) "Analog column mux input", 5 VSS (power) "Ground connection", 6 P1[7] (io) "I2C SCL", 7 P1[5] (io) "I2C SDA", 8 P1[3] (io), 9 P1[1] (io) "I2C SCL, ISSP-SCLK", 10 VSS (power) "Ground connection", 11 P1[0] (io) "I2C SDA, ISSP-SDATA", 12 P1[2] (io), 13 P1[4] (io) "Optional EXTCLK input", 14 P1[6] (io), 15 XRES (in) "Active high external reset with internal pull-down", 16 P0[0] (io) "Analog column mux input", 17 P0[2] (io) "Analog column mux input", 18 P0[4] (io) "Analog column mux input", 19 P0[6] (io) "Analog column mux input", 20 VDD (power) "Supply voltage"

## CY8C21334-12PVXE
designator U?
Automotive Extended Temperature PSoC Programmable System-on-Chip, 8 KB Flash, 16 GPIOs, 4.75 to 5.25 V, 20-Pin SSOP (O20.21); Manufacturer: Cypress; PartNumber: CY8C21334-12PVXE; Comm. Interface: I2C-SPI-UART; CPU Core: M8C; No. of CapSense IO: 12; Flash (KB): 8; Max. Operating Voltage (V): 5.25; Min. Operating Voltage (V): 4.75; No. of GPIOs: 16; No. of Programmable Digital Blocks: 3; Proximity Sensing: Y; PWMs: HW; Rating: E; Sliders: 2; SmartSense Enabled: N; DatasheetVersion: Rev. *J; PackageVersion: *C; PackageReference: PVX20; PackageDescription: 20-Pin SSOP, Body 7.2 x 5.3 mm, Pitch 0.65 mm; Supplier 1: Digi-Key; Supplier Part Number 1: CY8C21334-12PVXE-ND; Supplier 2: Newark; Supplier Part Number 2: 53M3699; Supplier 3: Mouser; Supplier Part Number 3: 727-CY8C21334-12PVXE; Max. Operating Temp. (°C): 125; Min. Operating Temp. (°C): -40; RoHS: Pb-Free; Mounting Technology: Surface Mount; ComponentLink1Description: Manufacturer URL; ComponentLink1URL: http://www.cypress.com/; ComponentLink2Description: Datasheet; ComponentLink2URL: http://www.cypress.com/?docID=42394; ComponentLink3Description: Package Specification; ComponentLink3URL: http://www.cypress.com/?docID=39148; ComponentLink4Description: Product URL; ComponentLink4URL: http://www.cypress.com/?rID=3307
footprint CYP-PVX20_N (SOP, 20-Leads, Body 7.2x5.3mm, Pitch 0.65mm, IPC Medium Density)
footprint CYP-PVX20_L (SOP, 20-Leads, Body 7.2x5.3mm, Pitch 0.65mm, IPC High Density)
footprint CYP-PVX20_M (SOP, 20-Leads, Body 7.2x5.3mm, Pitch 0.65mm, IPC Low Density)
pins: 1 P0[7] (io) "Analog column mux input", 2 P0[5] (io) "Analog column mux input", 3 P0[3] (io) "Analog column mux input, integrating input", 4 P0[1] (io) "Analog column mux input, integrating input", 5 VSS (power) "Ground connection", 6 P1[7] (io) "I2C SCL", 7 P1[5] (io) "I2C SDA", 8 P1[3] (io), 9 P1[1] (io) "I2C SCL, ISSP-SCLK[4]", 10 VSS (power) "Ground connection.", 11 P1[0] (io) "I2C SDA, ISSP-SDATA[4]", 12 P1[2] (io), 13 P1[4] (io) "Optional external clock input (EXTCLK)", 14 P1[6] (io), 15 XRES (in) "Active high external reset with internal pull-down", 16 P0[0] (io) "Analog column mux input", 17 P0[2] (io) "Analog column mux input", 18 P0[4] (io) "Analog column mux input", 19 P0[6] (io) "Analog column mux input", 20 VDD (power) "Supply voltage"

## CY8C21334-12PVXET
designator U?
Automotive Extended Temperature PSoC Programmable System-on-Chip, 8 KB Flash, 16 GPIOs, 4.75 to 5.25 V, 20-Pin SSOP (O20.21), Tape and Reel; Manufacturer: Cypress; PartNumber: CY8C21334-12PVXET; Comm. Interface: I2C-SPI-UART; CPU Core: M8C; No. of CapSense IO: 12; Flash (KB): 8; Max. Operating Voltage (V): 5.25; Min. Operating Voltage (V): 4.75; No. of GPIOs: 16; No. of Programmable Digital Blocks: 3; Proximity Sensing: Y; PWMs: HW; Rating: E; Sliders: 2; SmartSense Enabled: N; DatasheetVersion: Rev. *J; PackageVersion: *C; PackageReference: PVX20; PackageDescription: 20-Pin SSOP, Body 7.2 x 5.3 mm, Pitch 0.65 mm; Supplier 1: Digi-Key; Supplier Part Number 1: CY8C21334-12PVXET-ND; Supplier 2: Newark; Supplier Part Number 2: 53M3700; Supplier 3: Mouser; Supplier Part Number 3: 727-CY8C2133412PVXET; Max. Operating Temp. (°C): 125; Min. Operating Temp. (°C): -40; Packing: Tape and Reel; RoHS: Pb-Free; Mounting Technology: Surface Mount; ComponentLink1Description: Manufacturer URL; ComponentLink1URL: http://www.cypress.com/; ComponentLink2Description: Datasheet; ComponentLink2URL: http://www.cypress.com/?docID=42394; ComponentLink3Description: Package Specification; ComponentLink3URL: http://www.cypress.com/?docID=39148; ComponentLink4Description: Product URL; ComponentLink4URL: http://www.cypress.com/?rID=3307
footprint CYP-PVX20_N (SOP, 20-Leads, Body 7.2x5.3mm, Pitch 0.65mm, IPC Medium Density)
footprint CYP-PVX20_L (SOP, 20-Leads, Body 7.2x5.3mm, Pitch 0.65mm, IPC High Density)
footprint CYP-PVX20_M (SOP, 20-Leads, Body 7.2x5.3mm, Pitch 0.65mm, IPC Low Density)
pins: 1 P0[7] (io) "Analog column mux input", 2 P0[5] (io) "Analog column mux input", 3 P0[3] (io) "Analog column mux input, integrating input", 4 P0[1] (io) "Analog column mux input, integrating input", 5 VSS (power) "Ground connection", 6 P1[7] (io) "I2C SCL", 7 P1[5] (io) "I2C SDA", 8 P1[3] (io), 9 P1[1] (io) "I2C SCL, ISSP-SCLK[4]", 10 VSS (power) "Ground connection.", 11 P1[0] (io) "I2C SDA, ISSP-SDATA[4]", 12 P1[2] (io), 13 P1[4] (io) "Optional external clock input (EXTCLK)", 14 P1[6] (io), 15 XRES (in) "Active high external reset with internal pull-down", 16 P0[0] (io) "Analog column mux input", 17 P0[2] (io) "Analog column mux input", 18 P0[4] (io) "Analog column mux input", 19 P0[6] (io) "Analog column mux input", 20 VDD (power) "Supply voltage"

## CY8C21334-24PVXA
designator U?
Automotive PSoC Programmable System-on-Chip, 8 KB Flash, 16 GPIOs, 3.00 to 5.25 V, 20-Pin SSOP (O20.21); Manufacturer: Cypress; PartNumber: CY8C21334-24PVXA; Comm. Interface: I2C-SPI-UART; CPU Core: M8C; No. of CapSense IO: 12; Flash (KB): 8; Max. Operating Voltage (V): 5.25; Min. Operating Voltage (V): 3; No. of GPIOs: 16; Proximity Sensing: Y; PWMs: HW; Rating: A; Sliders: 2; SmartSense Enabled: N; DatasheetVersion: Rev. *I; PackageVersion: *C; PackageReference: PVX20; PackageDescription: 20-Pin SSOP, Body 7.2 x 5.3 mm, Pitch 0.65 mm; Supplier 1: Digi-Key; Supplier Part Number 1: CY8C21334-24PVXA-ND; Supplier 2: Mouser; Supplier Part Number 2: 727-CY2133424PVXA; Max. Operating Temp. (°C): 85; Min. Operating Temp. (°C): -40; No. of Programmable Digital Blocks: 3; RoHS: Pb-Free; Mounting Technology: Surface Mount; ComponentLink1Description: Manufacturer URL; ComponentLink1URL: http://www.cypress.com/; ComponentLink2Description: Datasheet; ComponentLink2URL: http://www.cypress.com/?docID=47071; ComponentLink3Description: Package Specification; ComponentLink3URL: http://www.cypress.com/?docID=39148; ComponentLink4Description: Product URL; ComponentLink4URL: http://www.cypress.com/?rID=3309
footprint CYP-PVX20_N (SOP, 20-Leads, Body 7.2x5.3mm, Pitch 0.65mm, IPC Medium Density)
footprint CYP-PVX20_L (SOP, 20-Leads, Body 7.2x5.3mm, Pitch 0.65mm, IPC High Density)
footprint CYP-PVX20_M (SOP, 20-Leads, Body 7.2x5.3mm, Pitch 0.65mm, IPC Low Density)
pins: 1 P0[7] (io) "Analog column mux input", 2 P0[5] (io) "Analog column mux input", 3 P0[3] (io) "Analog column mux input, integrating input", 4 P0[1] (io) "Analog column mux input, integrating input", 5 VSS (power) "Ground connection", 6 P1[7] (io) "I2C SCL", 7 P1[5] (io) "I2C SDA", 8 P1[3] (io), 9 P1[1] (io) "I2C SCL, ISSP-SCLK[4]", 10 VSS (power) "Ground connection.", 11 P1[0] (io) "I2C SDA, ISSP-SDATA[4]", 12 P1[2] (io), 13 P1[4] (io) "Optional external clock input (EXTCLK)", 14 P1[6] (io), 15 XRES (in) "Active high external reset with internal pull-down", 16 P0[0] (io) "Analog column mux input", 17 P0[2] (io) "Analog column mux input", 18 P0[4] (io) "Analog column mux input", 19 P0[6] (io) "Analog column mux input", 20 VDD (power) "Supply voltage"

## CY8C21334-24PVXAT
designator U?
Automotive PSoC Programmable System-on-Chip, 8 KB Flash, 16 GPIOs, 3.00 to 5.25 V, 20-Pin SSOP (O20.21), Tape and Reel; Manufacturer: Cypress; PartNumber: CY8C21334-24PVXAT; Comm. Interface: I2C-SPI-UART; CPU Core: M8C; No. of CapSense IO: 12; Flash (KB): 8; Max. Operating Voltage (V): 5.25; Min. Operating Voltage (V): 3; No. of GPIOs: 16; Proximity Sensing: Y; PWMs: HW; Rating: A; Sliders: 2; SmartSense Enabled: N; DatasheetVersion: Rev. *I; PackageVersion: *C; PackageReference: PVX20; PackageDescription: 20-Pin SSOP, Body 7.2 x 5.3 mm, Pitch 0.65 mm; Supplier 1: Digi-Key; Supplier Part Number 1: CY8C21334-24PVXAT-ND; Supplier 2: Mouser; Supplier Part Number 2: 727-CY2133424PVXAT; Max. Operating Temp. (°C): 85; Min. Operating Temp. (°C): -40; No. of Programmable Digital Blocks: 3; Packing: Tape and Reel; RoHS: Pb-Free; Mounting Technology: Surface Mount; ComponentLink1Description: Manufacturer URL; ComponentLink1URL: http://www.cypress.com/; ComponentLink2Description: Datasheet; ComponentLink2URL: http://www.cypress.com/?docID=47071; ComponentLink3Description: Package Specification; ComponentLink3URL: http://www.cypress.com/?docID=39148; ComponentLink4Description: Product URL; ComponentLink4URL: http://www.cypress.com/?rID=3309
footprint CYP-PVX20_N (SOP, 20-Leads, Body 7.2x5.3mm, Pitch 0.65mm, IPC Medium Density)
footprint CYP-PVX20_L (SOP, 20-Leads, Body 7.2x5.3mm, Pitch 0.65mm, IPC High Density)
footprint CYP-PVX20_M (SOP, 20-Leads, Body 7.2x5.3mm, Pitch 0.65mm, IPC Low Density)
pins: 1 P0[7] (io) "Analog column mux input", 2 P0[5] (io) "Analog column mux input", 3 P0[3] (io) "Analog column mux input, integrating input", 4 P0[1] (io) "Analog column mux input, integrating input", 5 VSS (power) "Ground connection", 6 P1[7] (io) "I2C SCL", 7 P1[5] (io) "I2C SDA", 8 P1[3] (io), 9 P1[1] (io) "I2C SCL, ISSP-SCLK[4]", 10 VSS (power) "Ground connection.", 11 P1[0] (io) "I2C SDA, ISSP-SDATA[4]", 12 P1[2] (io), 13 P1[4] (io) "Optional external clock input (EXTCLK)", 14 P1[6] (io), 15 XRES (in) "Active high external reset with internal pull-down", 16 P0[0] (io) "Analog column mux input", 17 P0[2] (io) "Analog column mux input", 18 P0[4] (io) "Analog column mux input", 19 P0[6] (io) "Analog column mux input", 20 VDD (power) "Supply voltage"

## CY8C21334-24PVXI
designator U?
PSoC Programmable System-on-Chip, 8 KB Flash, 16 GPIOs, 2.40 to 5.25 V, 20-Pin SSOP (O20.21); Manufacturer: Cypress; PartNumber: CY8C21334-24PVXI; Comm. Interface: I2C-SPI-UART; CPU Core: M8C; No. of CapSense IO: 12; Flash (KB): 8; Max. Operating Voltage (V): 5.25; Min. Operating Voltage (V): 2.4; No. of GPIOs: 16; No. of Programmable Digital Blocks: 3; Proximity Sensing: Y; PWMs: HW; Rating: I; Sliders: 2; SmartSense Enabled: N; DatasheetVersion: Rev. *AD; PackageVersion: *C; PackageReference: PVX20; PackageDescription: 20-Pin SSOP, Body 7.2 x 5.3 mm, Pitch 0.65 mm; Supplier 1: Digi-Key; Supplier Part Number 1: 428-1612-ND; Supplier 2: Farnell; Supplier Part Number 2: 1321731; Supplier 3: Newark; Supplier Part Number 3: 31M4841; Supplier 4: Newark; Supplier Part Number 4: 19M7166; Supplier 5: Mouser; Supplier Part Number 5: 727-CY8C21334-24PVXI; Max. Operating Temp. (°C): 85; Min. Operating Temp. (°C): -40; RoHS: Pb-Free; Mounting Technology: Surface Mount; ComponentLink1Description: Manufacturer URL; ComponentLink1URL: http://www.cypress.com/; ComponentLink2Description: Datasheet; ComponentLink2URL: http://www.cypress.com/?docID=48828; ComponentLink3Description: Package Specification; ComponentLink3URL: http://www.cypress.com/?docID=39148; ComponentLink4Description: Product URL; ComponentLink4URL: http://www.cypress.com/?rID=3345
footprint CYP-PVX20_N (SOP, 20-Leads, Body 7.2x5.3mm, Pitch 0.65mm, IPC Medium Density)
footprint CYP-PVX20_L (SOP, 20-Leads, Body 7.2x5.3mm, Pitch 0.65mm, IPC High Density)
footprint CYP-PVX20_M (SOP, 20-Leads, Body 7.2x5.3mm, Pitch 0.65mm, IPC Low Density)
pins: 1 P0[7] (io) "Analog column mux input", 2 P0[5] (io) "Analog column mux input", 3 P0[3] (io) "Analog column mux input, integrating input", 4 P0[1] (io) "Analog column mux input, integrating input", 5 VSS (power) "Ground connection", 6 P1[7] (io) "I2C SCL", 7 P1[5] (io) "I2C SDA", 8 P1[3] (io), 9 P1[1] (io) "I2C SCL, ISSP-SCLK[4]", 10 VSS (power) "Ground connection.", 11 P1[0] (io) "I2C SDA, ISSP-SDATA[4]", 12 P1[2] (io), 13 P1[4] (io) "Optional external clock input (EXTCLK)", 14 P1[6] (io), 15 XRES (in) "Active high external reset with internal pull-down", 16 P0[0] (io) "Analog column mux input", 17 P0[2] (io) "Analog column mux input", 18 P0[4] (io) "Analog column mux input", 19 P0[6] (io) "Analog column mux input", 20 VDD (power) "Supply voltage"

## CY8C21334-24PVXIT
designator U?
PSoC Programmable System-on-Chip, 8 KB Flash, 16 GPIOs, 2.40 to 5.25 V, 20-Pin SSOP (O20.21), Tape and Reel; Manufacturer: Cypress; PartNumber: CY8C21334-24PVXIT; Comm. Interface: I2C-SPI-UART; CPU Core: M8C; No. of CapSense IO: 12; Flash (KB): 8; Max. Operating Voltage (V): 5.25; Min. Operating Voltage (V): 2.4; No. of GPIOs: 16; No. of Programmable Digital Blocks: 3; Proximity Sensing: Y; PWMs: HW; Rating: I; Sliders: 2; SmartSense Enabled: N; DatasheetVersion: Rev. *AD; PackageVersion: *C; PackageReference: PVX20; PackageDescription: 20-Pin SSOP, Body 7.2 x 5.3 mm, Pitch 0.65 mm; Supplier 1: Digi-Key; Supplier Part Number 1: CY8C21334-24PVXIT-ND; Supplier 2: Newark; Supplier Part Number 2: 19M7167; Supplier 3: Mouser; Supplier Part Number 3: 727-CY8C2133424PVXIT; Max. Operating Temp. (°C): 85; Min. Operating Temp. (°C): -40; Packing: Tape and Reel; RoHS: Pb-Free; Mounting Technology: Surface Mount; ComponentLink1Description: Manufacturer URL; ComponentLink1URL: http://www.cypress.com/; ComponentLink2Description: Datasheet; ComponentLink2URL: http://www.cypress.com/?docID=48828; ComponentLink3Description: Package Specification; ComponentLink3URL: http://www.cypress.com/?docID=39148; ComponentLink4Description: Product URL; ComponentLink4URL: http://www.cypress.com/?rID=3309
footprint CYP-PVX20_N (SOP, 20-Leads, Body 7.2x5.3mm, Pitch 0.65mm, IPC Medium Density)
footprint CYP-PVX20_L (SOP, 20-Leads, Body 7.2x5.3mm, Pitch 0.65mm, IPC High Density)
footprint CYP-PVX20_M (SOP, 20-Leads, Body 7.2x5.3mm, Pitch 0.65mm, IPC Low Density)
pins: 1 P0[7] (io) "Analog column mux input", 2 P0[5] (io) "Analog column mux input", 3 P0[3] (io) "Analog column mux input, integrating input", 4 P0[1] (io) "Analog column mux input, integrating input", 5 VSS (power) "Ground connection", 6 P1[7] (io) "I2C SCL", 7 P1[5] (io) "I2C SDA", 8 P1[3] (io), 9 P1[1] (io) "I2C SCL, ISSP-SCLK[4]", 10 VSS (power) "Ground connection.", 11 P1[0] (io) "I2C SDA, ISSP-SDATA[4]", 12 P1[2] (io), 13 P1[4] (io) "Optional external clock input (EXTCLK)", 14 P1[6] (io), 15 XRES (in) "Active high external reset with internal pull-down", 16 P0[0] (io) "Analog column mux input", 17 P0[2] (io) "Analog column mux input", 18 P0[4] (io) "Analog column mux input", 19 P0[6] (io) "Analog column mux input", 20 VDD (power) "Supply voltage"

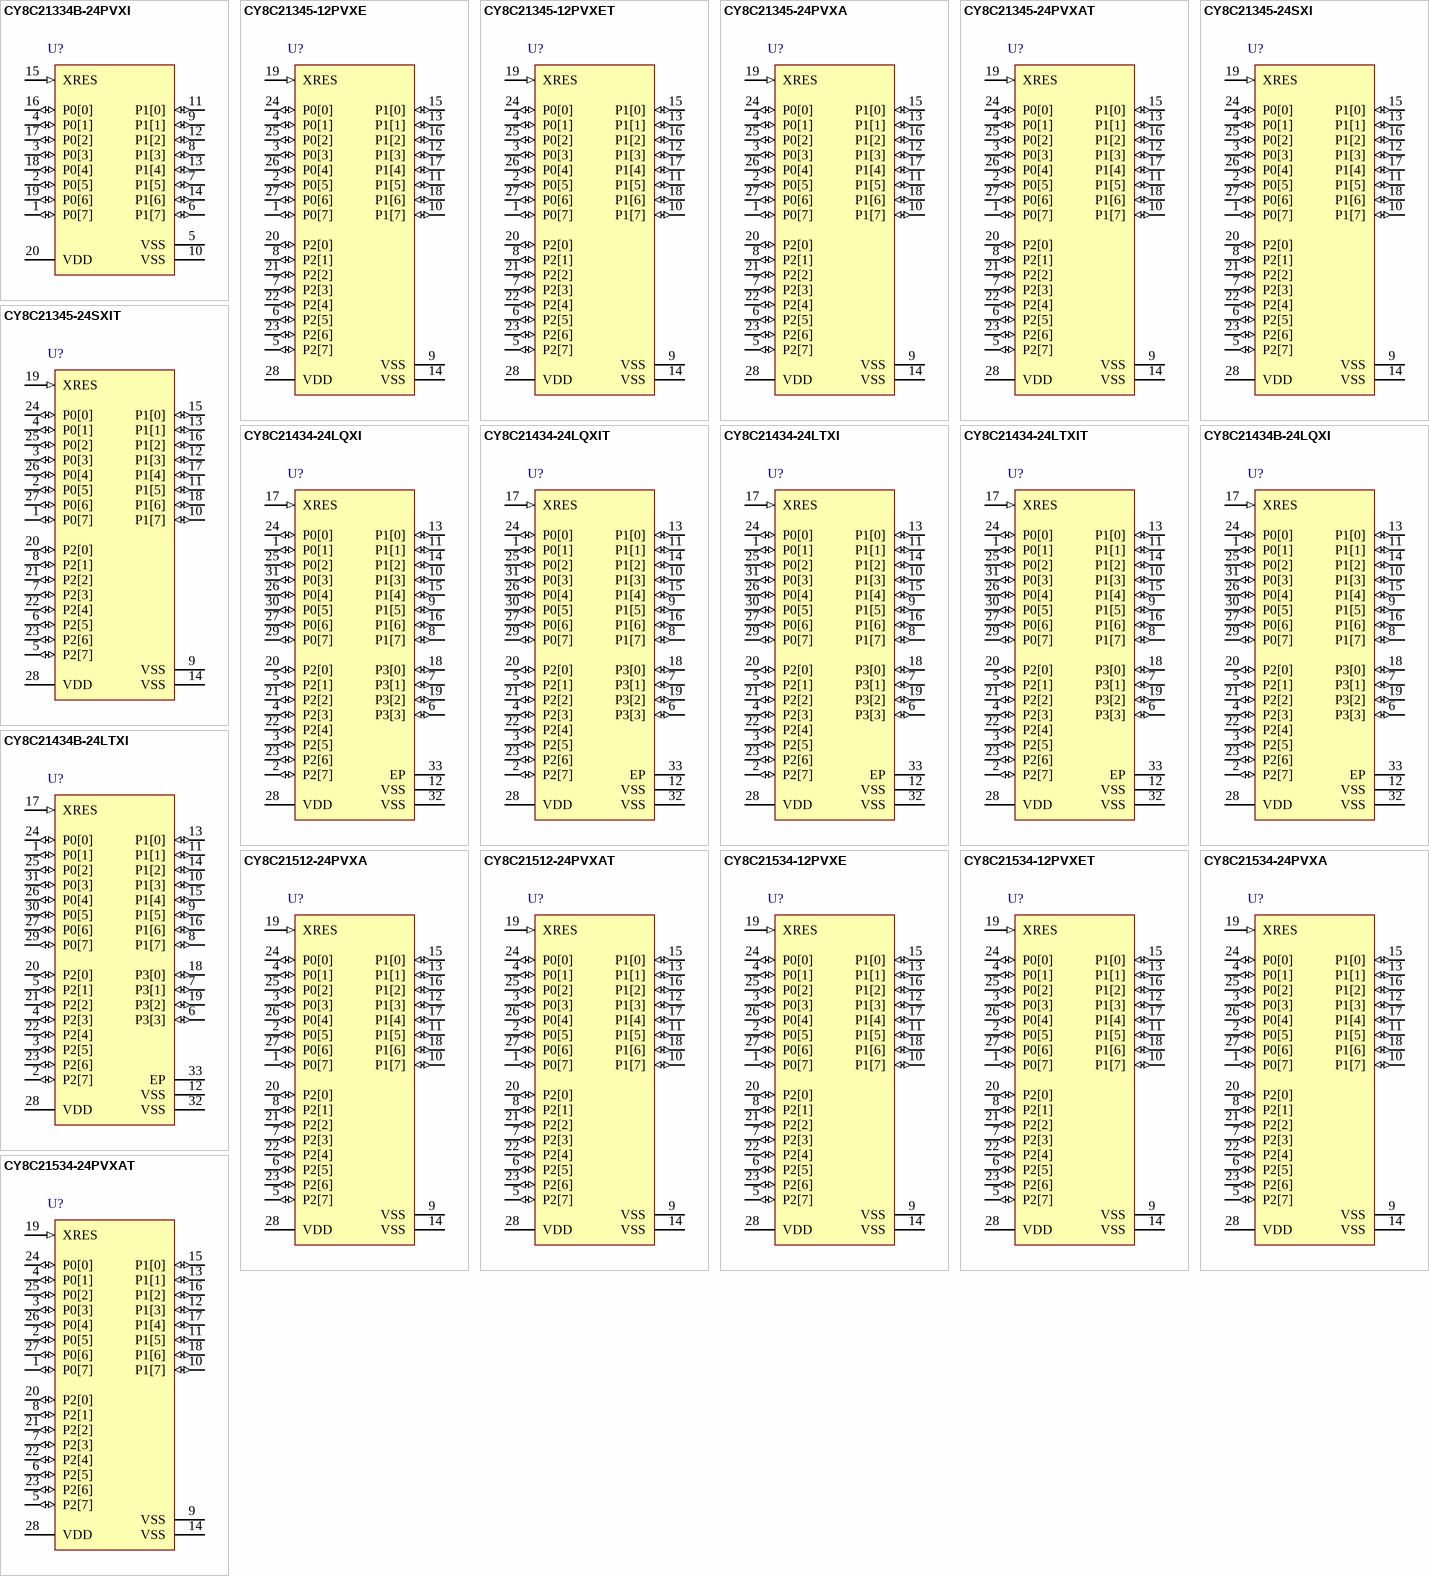
[diagram p2: symbols CY8C21334B-24PVXI to CY8C21534-24PVXAT]

## CY8C21334B-24PVXI
designator U?
PSoC Programmable System-on-Chip, M8C, 12 CapSense IO, 2.4 to 5.25 V, 20-Pin SSOP (PVX20); Manufacturer: Cypress; PartNumber: CY8C21334B-24PVXI; Comm. Interface: I2C-SPI-UART; No. of CapSense IO: 12; Flash (KB): 8; Max. Operating Voltage (V): 5.25; Min. Operating Voltage (V): 2.4; No. of Programmable Digital Blocks: 3; Packing: Tube; Proximity Sensing: Y; PWMs: HW; Rating: I; Sliders: 2; DatasheetVersion: Rev. *D; PackageVersion: *C; PackageReference: PVX20; PackageDescription: 20-Pin SSOP, Body 7.2 x 5.3 mm, Pitch 0.65 mm; Supplier 1: Digi-Key; Supplier Part Number 1: CY8C21334B-24PVXI-ND; Supplier 2: Mouser; Supplier Part Number 2: 727-CY8C21334B24PVXI; CPU Core: M8C; Max. Operating Temp. (°C): 85; Min. Operating Temp. (°C): -40; No. of GPIOs: 12; RoHS: Pb-Free; SmartSense Enabled: Y; Mounting Technology: Surface Mount; ComponentLink1Description: Manufacturer URL; ComponentLink1URL: http://www.cypress.com/; ComponentLink2Description: Datasheet; ComponentLink2URL: http://www.cypress.com/?docID=48203; ComponentLink3Description: Package Specification; ComponentLink3URL: http://www.cypress.com/?docID=39148; ComponentLink4Description: Product URL; ComponentLink4URL: http://www.cypress.com/?rID=49125
footprint CYP-PVX20_N (SOP, 20-Leads, Body 7.2x5.3mm, Pitch 0.65mm, IPC Medium Density)
footprint CYP-PVX20_L (SOP, 20-Leads, Body 7.2x5.3mm, Pitch 0.65mm, IPC High Density)
footprint CYP-PVX20_M (SOP, 20-Leads, Body 7.2x5.3mm, Pitch 0.65mm, IPC Low Density)
pins: 1 P0[7] (io) "Analog column mux input", 2 P0[5] (io) "Analog column mux input", 3 P0[3] (io) "Analog column mux input, integrating input", 4 P0[1] (io) "Analog column mux input, integrating input", 5 VSS (power) "Ground connection", 6 P1[7] (io) "I2C SCL", 7 P1[5] (io) "I2C SDA", 8 P1[3] (io), 9 P1[1] (io) "I2C SCL, ISSP-SCLK", 10 VSS (power) "Ground connection", 11 P1[0] (io) "I2C SDA, ISSP-SDATA", 12 P1[2] (io), 13 P1[4] (io) "Optional external clock input (EXTCLK)", 14 P1[6] (io), 15 XRES (in) "Active high external reset with internal pull-down", 16 P0[0] (io) "Analog column mux input", 17 P0[2] (io) "Analog column mux input", 18 P0[4] (io) "Analog column mux input", 19 P0[6] (io) "Analog column mux input", 20 VDD (power) "Supply voltage"